# EAGLE library part STSAFE (library Parts)
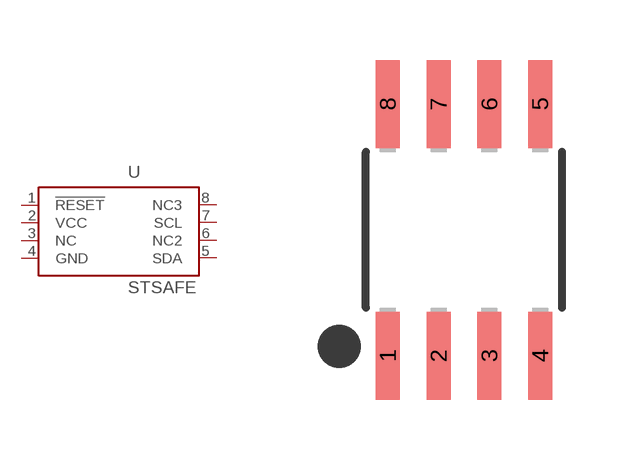
[diagram p18: symbol with the pads of SO8N; footprint SO8N]

Designator prefix U

## STSAFE  [SO8N]
1  !RESET!
2  VCC  pas
3  NC  nc
4  GND  pas
5  SDA
6  NC2  nc
7  SCL
8  NC3  nc

## Footprint SO8N (pad centres in mm)
8-lead plastic small outline 150 mils body width
smd 0.6 x 2.2: 1 -1.905,-3.15; 2 -0.635,-3.15; 3 0.635,-3.15; 4 1.905,-3.15; 5 1.905,3.15; 6 0.635,3.15; 7 -0.635,3.15; 8 -1.905,3.15